# EAGLE library part COMPORT-6PIN-OLD (library pinconn)
Pin connectors
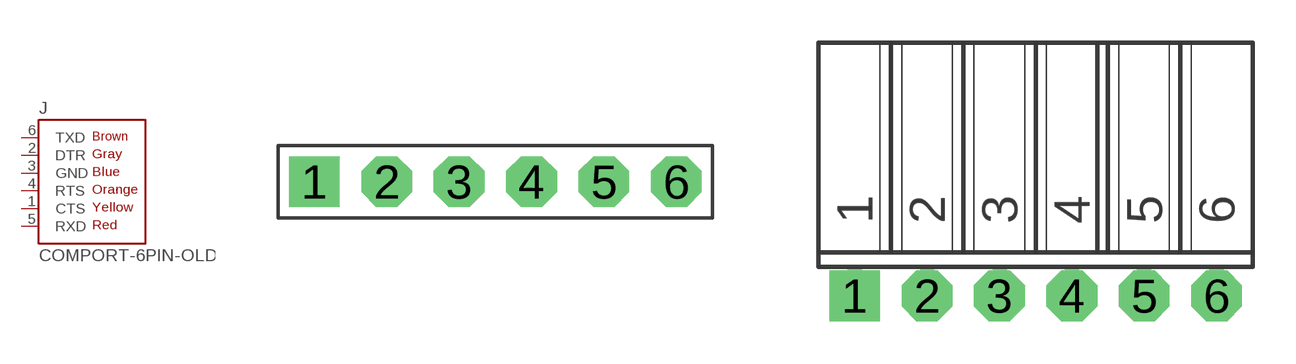
[diagram p5: symbol with the pads of CONN-6P; footprints CONN-6P, CONN-6P-FEM-90]

Designator prefix J

## COMPORT-6PIN-OLD-6P  [CONN-6P]
1  CTS  pas
2  DTR  pas
3  GND  pas
4  RTS  pas
5  RXD  pas
6  TXD  pas

## COMPORT-6PIN-OLD6P-FEM90  [CONN-6P-FEM-90]
Pads as for CONN-6P

## Footprint CONN-6P (pad centres in mm)
drill 0.9 pad 1.778 square: 1 0,0
drill 0.9 pad 1.778 octagon: 2 2.54,0; 3 5.08,0; 4 7.62,0; 5 10.16,0; 6 12.7,0

## Footprint CONN-6P-FEM-90 (pad centres in mm)
Pin connectors
drill 0.9 pad 1.778 square: 1 -6.35,0
drill 0.9 pad 1.778 octagon: 2 -3.81,0; 3 -1.27,0; 4 1.27,0; 5 3.81,0; 6 6.35,0